# EAGLE library part MC34025PG (library On Semiconductor)
High Speed Double-Ended PWM Controller
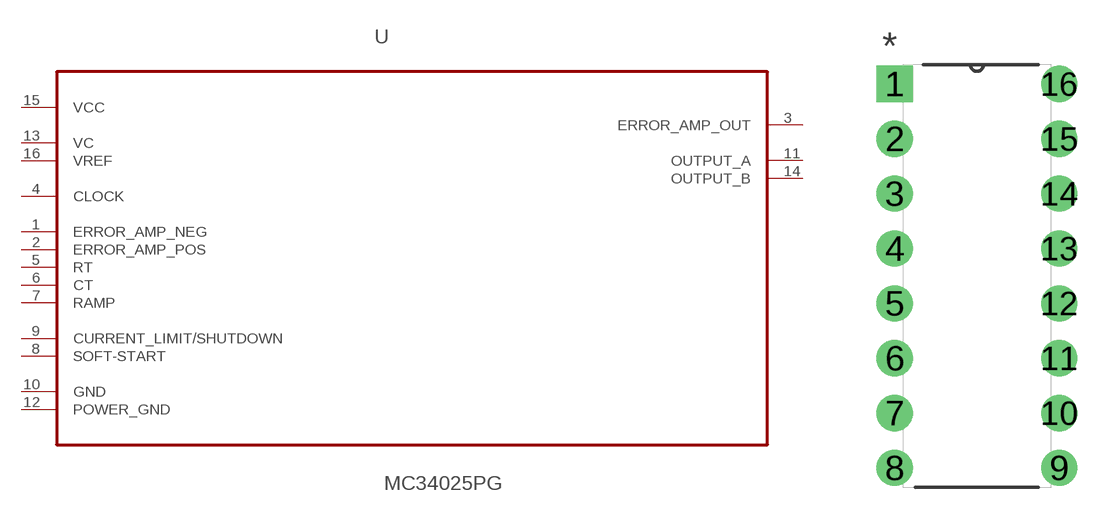
[diagram p386: symbol with the pads of DIP254P762X444-16; footprint DIP254P762X444-16]

Designator prefix U

## MC34025PG (MPN: MC34025PG; OC_FARNELL: 1364615; OC_NEWARK: 45J1204; PACKAGE: PDIP-16; SUPPLIER: ON SEMICONDUCTOR)  [DIP254P762X444-16]
1  ERROR_AMP_NEG  in
2  ERROR_AMP_POS  in
3  ERROR_AMP_OUT  out
4  CLOCK  in
5  RT  in
6  CT  in
7  RAMP  in
8  SOFT-START  in
9  CURRENT_LIMIT/SHUTDOWN  in
10  GND  pas
11  OUTPUT_A  out
12  POWER_GND  pas
13  VC  pwr
14  OUTPUT_B  out
15  VCC  pwr
16  VREF  in

## Footprint DIP254P762X444-16 (pad centres in mm)
drill 1.118 square: 1 -7.62,17.78
drill 1.118: 2 -7.62,15.24; 3 -7.62,12.7; 4 -7.62,10.16; 5 -7.62,7.62; 6 -7.62,5.08; 7 -7.62,2.54; 8 -7.62,0; 9 0,0; 10 0,2.54; 11 0,5.08; 12 0,7.62; 13 0,10.16; 14 0,12.7; 15 0,15.24; 16 0,17.78